# Altium schematic symbol library 522070485.SchLib: 2 symbols
Pins are listed as number, name and electrical type; pins without a type are passive.

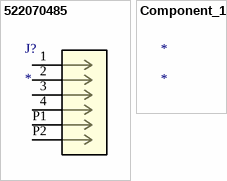
[diagram p0: symbols 522070485 to Component_1]

## 522070485
designator J?
No Description Available; Mfr_Name: Molex Connector Corporation; RefDes: RefDes; Type: Type
footprint CON_522070485_MOL
pins: 1, 2, 3, 4, P1, P2

## Component_1
designator *